# EAGLE library part LORA1276_TOP (library lora1276)
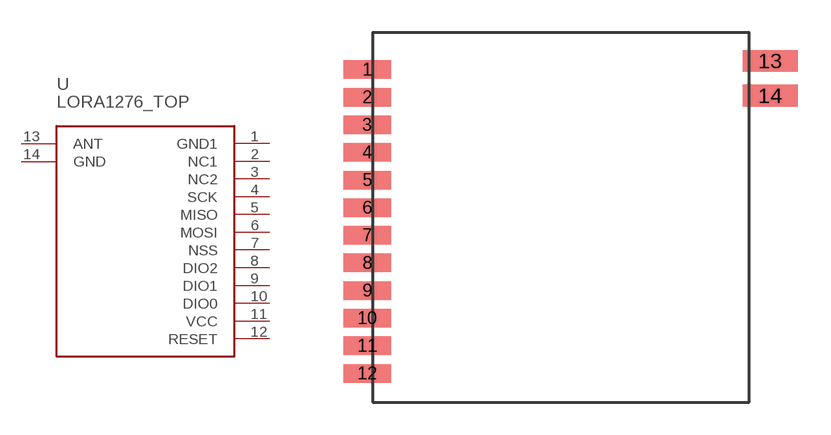
[diagram p2: symbol with the pads of LORA1276_TOP; footprint LORA1276_TOP]

Designator prefix -

## LORA1276_TOP  [LORA1276_TOP]
1  GND1  pwr
2  NC1  nc
3  NC2  nc
4  SCK  in
5  MISO  out
6  MOSI  in
7  NSS  in
8  DIO2
9  DIO1
10  DIO0
11  VCC  pwr
12  RESET  in
13  ANT  in
14  GND  pwr

## Footprint LORA1276_TOP (pad centres in mm)
smd 2.184 x 0.85: 1 -0.254,0; 2 -0.254,-1.27; 3 -0.254,-2.54; 4 -0.254,-3.81; 5 -0.254,-5.08; 6 -0.254,-6.35; 7 -0.254,-7.62; 8 -0.254,-8.89; 9 -0.254,-10.16; 10 -0.254,-11.43; 11 -0.254,-12.7; 12 -0.254,-13.97
smd 2.54 x 1: 13 18.27,0.4; 14 18.27,-1.2